# EAGLE library part SN74LS00N (library IC)
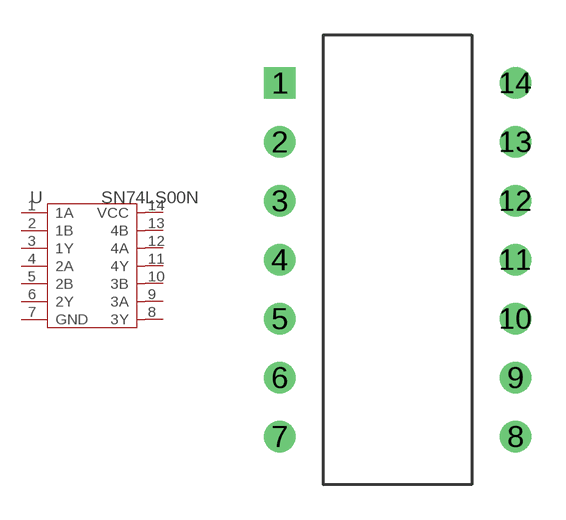
[diagram p169: symbol with the pads of DIP14-10.16MM; footprint DIP14-10.16MM]

Designator prefix U

## SN74LS00N-DIP14  [DIP14-10.16MM]
1  1A  in
2  1B  in
3  1Y  out
4  2A  in
5  2B  in
6  2Y  out
7  GND  sup
8  3Y  out
9  3A  in
10  3B  in
11  4Y  out
12  4A  in
13  4B  in
14  VCC  sup

## Footprint DIP14-10.16MM (pad centres in mm)
drill 0.8 pad 1.35 square: 1 -5.08,7.62
drill 0.8 pad 1.35 round: 2 -5.08,5.08; 3 -5.08,2.54; 4 -5.08,0; 5 -5.08,-2.54; 6 -5.08,-5.08; 7 -5.08,-7.62; 8 5.08,-7.62; 9 5.08,-5.08; 10 5.08,-2.54; 11 5.08,0; 12 5.08,2.54; 13 5.08,5.08; 14 5.08,7.62